# Altium footprint library SOT-323 (SC-70).PcbLib: 1 footprints
Each footprint in its own frame and in the unit in brackets; x right, y up, seen from the top. Pads: shape width x height; smd on the part's side, far side on the other; paste and mask are expansions set on the pad; w line width, h text height; cw(c..) or ccw(c..) is an arc to the next point about the centre after c.
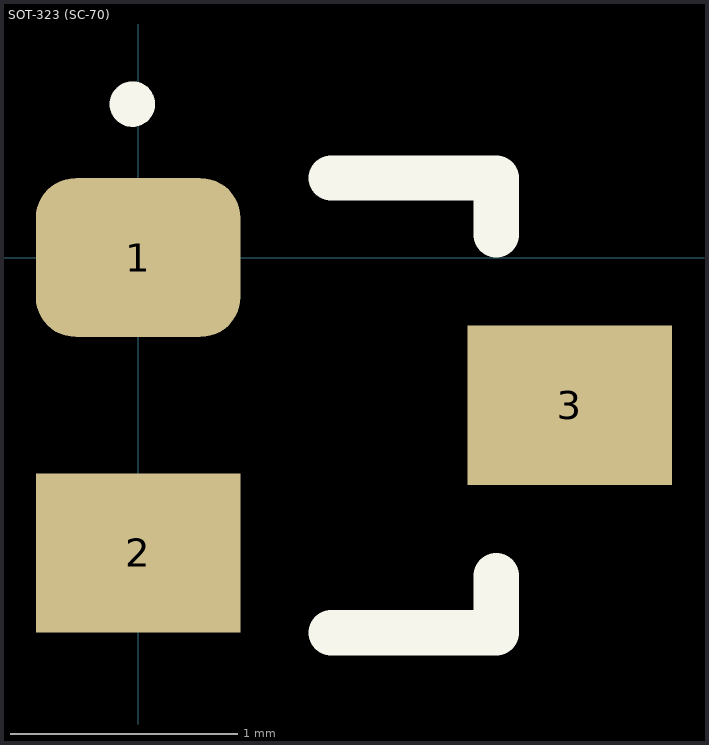
[diagram p0: the footprint, top view; thin cyan lines are the x and y axes]

## SOT-323 (SC-70) [mm] "SOT23, 3-Leads, Body 2x1.25mm, Pitch 0.65mm"
height 1
pads (3):
  rrect50% 0.9x0.7 smd: 1(0,0)
  rect 0.9x0.7 smd: 2(0,-1.3) 3(1.9,-0.65)
Top Overlay:
  circle w0.1: c-0.025,0.675 r0.05
  lines w0.2: 0.85,-1.65 1.575,-1.65 1.575,-1.4 ; 0.85,0.35 1.575,0.35 1.575,0.1
3D body "SOT323 (SC70-3)-1.STEP": height 1.07, standoff -0.03, extent -0.197,-1.75 2.048,0.45